# EAGLE library part SOP24L (library pcaroli)
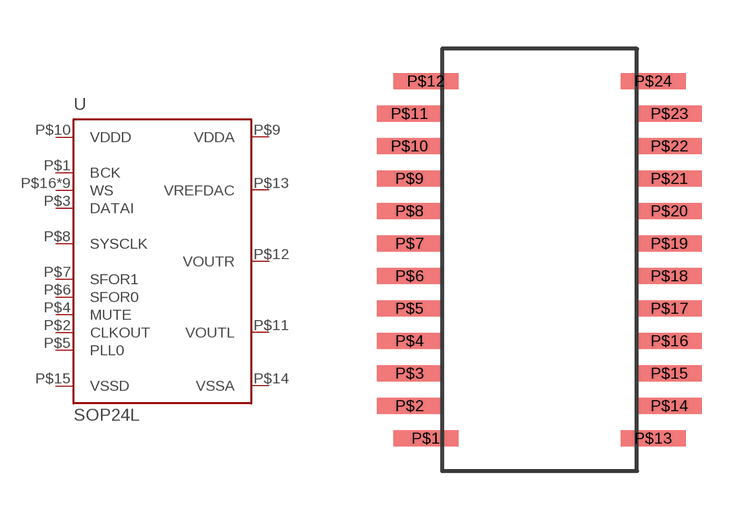
[diagram p5: symbol with the pads of SOP24L; footprint SOP24L]

Designator prefix -

## SOP24L  [SOP24L]
P$1  BCK  in
P$2  CLKOUT  in
P$3  DATAI  in
P$4  MUTE  in
P$5  PLL0  in
P$6  SFOR0  in
P$7  SFOR1  in
P$8  SYSCLK  in
P$9  VDDA  pwr
P$10  VDDD  pwr
P$11  VOUTL  out
P$12  VOUTR  out
P$13  VREFDAC  in
P$14  VSSA  pwr
P$15  VSSD  pwr
P$16  WS  in
P$17  WS  in
P$18  WS  in
P$19  WS  in
P$20  WS  in
P$21  WS  in
P$22  WS  in
P$23  WS  in
P$24  WS  in

## Footprint SOP24L (pad centres in mm)
smd 2 x 0.5: P$1 -3.5,-5.5; P$2 -4,-4.5; P$3 -4,-3.5; P$4 -4,-2.5; P$5 -4,-1.5; P$6 -4,-0.5; P$7 -4,0.5; P$8 -4,1.5; P$9 -4,2.5; P$10 -4,3.5; P$11 -4,4.5; P$12 -3.5,5.5; P$13 3.5,-5.5; P$14 4,-4.5; P$15 4,-3.5; P$16 4,-2.5; P$17 4,-1.5; P$18 4,-0.5; P$19 4,0.5; P$20 4,1.5; P$21 4,2.5; P$22 4,3.5; P$23 4,4.5; P$24 3.5,5.5